# Altium footprint library footprints.PcbLib: 68 footprints (part 1 of 5)
Each footprint in its own frame and in the unit in brackets; x right, y up, seen from the top. Pads: shape width x height; smd on the part's side, far side on the other; paste and mask are expansions set on the pad; w line width, h text height; cw(c..) or ccw(c..) is an arc to the next point about the centre after c.
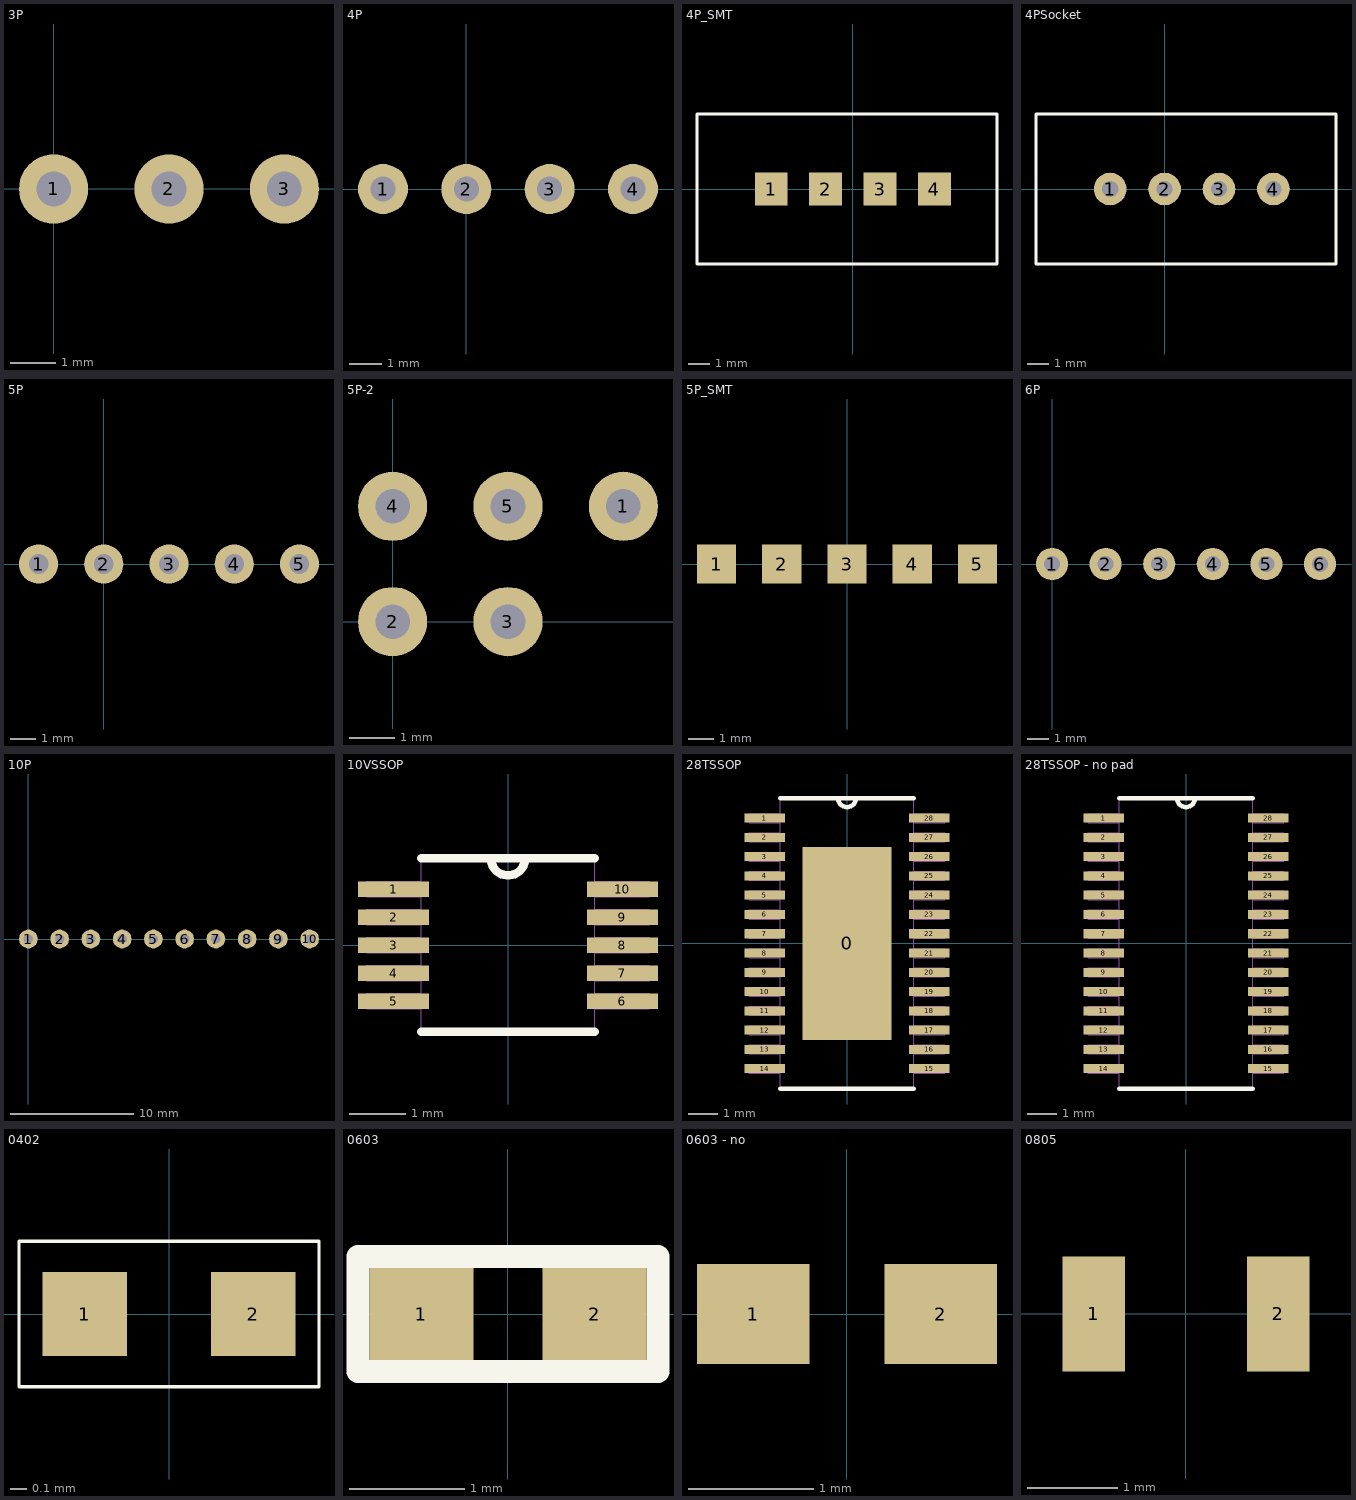
[diagram p0: the footprints below, top view; thin cyan lines are the x and y axes]

## 3P [mil]
pads (3):
  round 60 hole 30: 1(0,0) 2(100,0) 3(200,0)

## 4P [mil]
pads (4):
  round 60 hole 30: 1(-100,0) 2(0,0) 3(100,0) 4(200,0)

## 4P_SMT [mil]
pads (4):
  rect 60x60 smd: 1(-150,0) 2(-50,0) 3(50,0) 4(150,0)
Top Overlay:
  lines w5: -286.22,-137.8 264.96,-137.8 264.96,137.8 -286.22,137.8 -286.22,-137.8

## 4PSocket [mil]
pads (4):
  round 60 hole 30: 1(-100,0) 2(0,0) 3(100,0) 4(200,0)
Top Overlay:
  lines w5: -236.22,-137.8 314.96,-137.8 314.96,137.8 -236.22,137.8 -236.22,-137.8

## 5P [mil]
pads (5):
  round 60 hole 30: 1(-100,0) 2(0,0) 3(100,0) 4(200,0) 5(300,0)

## 5P-2 [mil]
pads (5):
  round 60 hole 30: 1(200,100) 2(0,0) 3(100,0) 4(0,100) 5(100,100)

## 5P_SMT [mil]
pads (5):
  rect 60x60 smd: 1(-200,0) 2(-100,0) 3(0,0) 4(100,0) 5(200,0)

## 6P [mil]
pads (6):
  round 60 hole 30: 1(0,0) 2(100,0) 3(200,0) 4(300,0) 5(400,0) 6(500,0)

## 10P [mil]
pads (10):
  round 60 hole 30: 1(0,0) 2(100,0) 3(200,0) 4(300,0) 5(400,0) 6(500,0) 7(600,0) 8(700,0) 9(800,0) 10(900,0)

## 10VSSOP [mil]
pads (10):
  rect 50x11 smd: 1(-80.5,39.37) 2(-80.5,19.68) 3(-80.5,0) 4(-80.5,-19.68) 5(-80.5,-39.37) 6(80.5,-39.37) 7(80.5,-19.68) 8(80.5,0) 9(80.5,19.68) 10(80.5,39.37)
Top Overlay:
  lines w6: -61,-61 61,-61 ; -61,61 61,61 ; -12,61 ccw(c0,61) 12,61
Mechanical 1:
  lines w0: -12,61 ccw(c0,61) 12,61 ; -99.5,-44.87 -99.5,-33.87 -61,-33.87 -61,-44.87 -99.5,-44.87 ; -99.5,-25.18 -99.5,-14.19 -61,-14.19 -61,-25.18 -99.5,-25.18 ; -99.5,-5.5 -99.5,5.5 -61,5.5 -61,-5.5 -99.5,-5.5 ; -99.5,14.19 -99.5,25.18 -61,25.18 -61,14.19 -99.5,14.19 ; -99.5,33.87 -99.5,44.87 -61,44.87 -61,33.87 -99.5,33.87 ; -61,-61 61,-61 61,61 -61,61 -61,-61 ; 61,-44.87 61,-33.87 99.5,-33.87 99.5,-44.87 61,-44.87 ; 61,-25.18 61,-14.19 99.5,-14.19 99.5,-25.18 61,-25.18 ; 61,-5.5 61,5.5 99.5,5.5 99.5,-5.5 61,-5.5 ; 61,14.19 61,25.18 99.5,25.18 99.5,14.19 61,14.19 ; 61,33.87 61,44.87 99.5,44.87 99.5,33.87 61,33.87

## 28TSSOP [mil]
pads (29):
  rect 118.11x255.91 smd: 0(0,0)
  rect 54x12 smd: 1(-109,166.34) 2(-109,140.75) 3(-109,115.16) 4(-109,89.57) 5(-109,63.98) 6(-109,38.39) 7(-109,12.8) 8(-109,-12.8) 9(-109,-38.39) 10(-109,-63.98) 11(-109,-89.57) 12(-109,-115.16) 13(-109,-140.75) 14(-109,-166.34) 15(109,-166.34) 16(109,-140.75) 17(109,-115.16) 18(109,-89.57) 19(109,-63.98) 20(109,-38.39) 21(109,-12.8) 22(109,12.8) 23(109,38.39) 24(109,63.98) 25(109,89.57) 26(109,115.16) 27(109,140.75) 28(109,166.34)
Top Overlay:
  lines w6: -88.5,-193 88.5,-193 ; -88.5,193 88.5,193 ; -12,193 ccw(c0,193) 12,193
Mechanical 1:
  lines w0: -12,193 ccw(c0,193) 12,193 ; -130,-172.34 -88.5,-172.34 -88.5,-160.34 -130,-160.34 -130,-172.34 ; -130,-146.75 -88.5,-146.75 -88.5,-134.75 -130,-134.75 -130,-146.75 ; -130,-121.16 -88.5,-121.16 -88.5,-109.16 -130,-109.16 -130,-121.16 ; -130,-95.57 -88.5,-95.57 -88.5,-83.57 -130,-83.57 -130,-95.57 ; -130,-69.98 -88.5,-69.98 -88.5,-57.98 -130,-57.98 -130,-69.98 ; -130,-44.39 -88.5,-44.39 -88.5,-32.39 -130,-32.39 -130,-44.39 ; -130,-18.8 -88.5,-18.8 -88.5,-6.8 -130,-6.8 -130,-18.8 ; -130,6.8 -88.5,6.8 -88.5,18.8 -130,18.8 -130,6.8 ; -130,32.39 -88.5,32.39 -88.5,44.39 -130,44.39 -130,32.39 ; -130,57.98 -88.5,57.98 -88.5,69.98 -130,69.98 -130,57.98 ; -130,83.57 -88.5,83.57 -88.5,95.57 -130,95.57 -130,83.57 ; -130,109.16 -88.5,109.16 -88.5,121.16 -130,121.16 -130,109.16 ; -130,134.75 -88.5,134.75 -88.5,146.75 -130,146.75 -130,134.75 ; -130,160.34 -88.5,160.34 -88.5,172.34 -130,172.34 -130,160.34 ; -88.5,-193 -88.5,193 88.5,193 88.5,-193 -88.5,-193 ; 88.5,-172.34 130,-172.34 130,-160.34 88.5,-160.34 88.5,-172.34 ; 88.5,-146.75 130,-146.75 130,-134.75 88.5,-134.75 88.5,-146.75 ; 88.5,-121.16 130,-121.16 130,-109.16 88.5,-109.16 88.5,-121.16 ; 88.5,-95.57 130,-95.57 130,-83.57 88.5,-83.57 88.5,-95.57 ; 88.5,-69.98 130,-69.98 130,-57.98 88.5,-57.98 88.5,-69.98 ; 88.5,-44.39 130,-44.39 130,-32.39 88.5,-32.39 88.5,-44.39 ; 88.5,-18.8 130,-18.8 130,-6.8 88.5,-6.8 88.5,-18.8 ; 88.5,6.8 130,6.8 130,18.8 88.5,18.8 88.5,6.8 ; 88.5,32.39 130,32.39 130,44.39 88.5,44.39 88.5,32.39 ; 88.5,57.98 130,57.98 130,69.98 88.5,69.98 88.5,57.98 ; 88.5,83.57 130,83.57 130,95.57 88.5,95.57 88.5,83.57 ; 88.5,109.16 130,109.16 130,121.16 88.5,121.16 88.5,109.16 ; 88.5,134.75 130,134.75 130,146.75 88.5,146.75 88.5,134.75 ; 88.5,160.34 130,160.34 130,172.34 88.5,172.34 88.5,160.34

## 28TSSOP - no pad [mil]
pads (28):
  rect 54x12 smd: 1(-109,166.34) 2(-109,140.75) 3(-109,115.16) 4(-109,89.57) 5(-109,63.98) 6(-109,38.39) 7(-109,12.8) 8(-109,-12.8) 9(-109,-38.39) 10(-109,-63.98) 11(-109,-89.57) 12(-109,-115.16) 13(-109,-140.75) 14(-109,-166.34) 15(109,-166.34) 16(109,-140.75) 17(109,-115.16) 18(109,-89.57) 19(109,-63.98) 20(109,-38.39) 21(109,-12.8) 22(109,12.8) 23(109,38.39) 24(109,63.98) 25(109,89.57) 26(109,115.16) 27(109,140.75) 28(109,166.34)
Top Overlay:
  lines w6: -88.5,-193 88.5,-193 ; -88.5,193 88.5,193 ; -12,193 ccw(c0,193) 12,193
Mechanical 1:
  lines w0: -12,193 ccw(c0,193) 12,193 ; -130,-172.34 -88.5,-172.34 -88.5,-160.34 -130,-160.34 -130,-172.34 ; -130,-146.75 -88.5,-146.75 -88.5,-134.75 -130,-134.75 -130,-146.75 ; -130,-121.16 -88.5,-121.16 -88.5,-109.16 -130,-109.16 -130,-121.16 ; -130,-95.57 -88.5,-95.57 -88.5,-83.57 -130,-83.57 -130,-95.57 ; -130,-69.98 -88.5,-69.98 -88.5,-57.98 -130,-57.98 -130,-69.98 ; -130,-44.39 -88.5,-44.39 -88.5,-32.39 -130,-32.39 -130,-44.39 ; -130,-18.8 -88.5,-18.8 -88.5,-6.8 -130,-6.8 -130,-18.8 ; -130,6.8 -88.5,6.8 -88.5,18.8 -130,18.8 -130,6.8 ; -130,32.39 -88.5,32.39 -88.5,44.39 -130,44.39 -130,32.39 ; -130,57.98 -88.5,57.98 -88.5,69.98 -130,69.98 -130,57.98 ; -130,83.57 -88.5,83.57 -88.5,95.57 -130,95.57 -130,83.57 ; -130,109.16 -88.5,109.16 -88.5,121.16 -130,121.16 -130,109.16 ; -130,134.75 -88.5,134.75 -88.5,146.75 -130,146.75 -130,134.75 ; -130,160.34 -88.5,160.34 -88.5,172.34 -130,172.34 -130,160.34 ; -88.5,-193 -88.5,193 88.5,193 88.5,-193 -88.5,-193 ; 88.5,-172.34 130,-172.34 130,-160.34 88.5,-160.34 88.5,-172.34 ; 88.5,-146.75 130,-146.75 130,-134.75 88.5,-134.75 88.5,-146.75 ; 88.5,-121.16 130,-121.16 130,-109.16 88.5,-109.16 88.5,-121.16 ; 88.5,-95.57 130,-95.57 130,-83.57 88.5,-83.57 88.5,-95.57 ; 88.5,-69.98 130,-69.98 130,-57.98 88.5,-57.98 88.5,-69.98 ; 88.5,-44.39 130,-44.39 130,-32.39 88.5,-32.39 88.5,-44.39 ; 88.5,-18.8 130,-18.8 130,-6.8 88.5,-6.8 88.5,-18.8 ; 88.5,6.8 130,6.8 130,18.8 88.5,18.8 88.5,6.8 ; 88.5,32.39 130,32.39 130,44.39 88.5,44.39 88.5,32.39 ; 88.5,57.98 130,57.98 130,69.98 88.5,69.98 88.5,57.98 ; 88.5,83.57 130,83.57 130,95.57 88.5,95.57 88.5,83.57 ; 88.5,109.16 130,109.16 130,121.16 88.5,121.16 88.5,109.16 ; 88.5,134.75 130,134.75 130,146.75 88.5,146.75 88.5,134.75 ; 88.5,160.34 130,160.34 130,172.34 88.5,172.34 88.5,160.34

## 0402 [mm]
pads (2):
  rect 0.5x0.5 smd: 1(-0.5,0) 2(0.5,0)
Top Overlay:
  lines w0.02: -0.889,-0.432 0.889,-0.432 0.889,0.432 -0.889,0.432 -0.889,0.139 -0.889,-0.432

## 0603 [mm]
pads (2):
  rect 0.9x0.8 smd: 1(-0.75,0) 2(0.75,0)
Top Overlay:
  lines w0.2: -1.3,-0.5 1.3,-0.5 1.3,0.5 -1.3,0.5 -1.3,0 -1.3,-0.5

## 0603 - no [mm]
pads (2):
  rect 0.9x0.8 smd: 1(-0.75,0) 2(0.75,0)

## 0805 [mil]
pads (2):
  rect 27x50 smd: 1(-40,0) 2(40,0)